# Altium schematic symbol library power.SchLib: 101 symbols
Pins are listed as number, name and electrical type; pins without a type are passive.

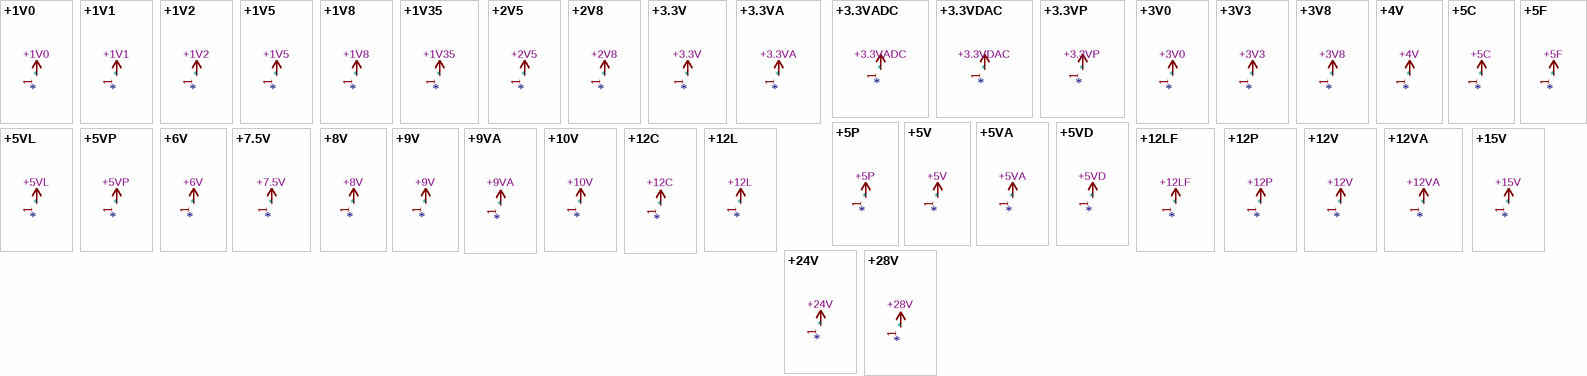
[diagram p0: symbols +1V0 to +28V]

## +1V0
designator *  value +1V0
Reference: #PWR; ki_keywords: global power; ki_description: Power symbol creates a global label with name "+1V0"
pins: 1 +1V0

## +1V1
designator *  value +1V1
Reference: #PWR; ki_keywords: global power; ki_description: Power symbol creates a global label with name "+1V1"
pins: 1 +1V1

## +1V2
designator *  value +1V2
Reference: #PWR; ki_keywords: global power; ki_description: Power symbol creates a global label with name "+1V2"
pins: 1 +1V2

## +1V5
designator *  value +1V5
Reference: #PWR; ki_keywords: global power; ki_description: Power symbol creates a global label with name "+1V5"
pins: 1 +1V5

## +1V8
designator *  value +1V8
Reference: #PWR; ki_keywords: global power; ki_description: Power symbol creates a global label with name "+1V8"
pins: 1 +1V8

## +1V35
designator *  value +1V35
Reference: #PWR; ki_keywords: global power; ki_description: Power symbol creates a global label with name "+1V35"
pins: 1 +1V35

## +2V5
designator *  value +2V5
Reference: #PWR; ki_keywords: global power; ki_description: Power symbol creates a global label with name "+2V5"
pins: 1 +2V5

## +2V8
designator *  value +2V8
Reference: #PWR; ki_keywords: global power; ki_description: Power symbol creates a global label with name "+2V8"
pins: 1 +2V8

## +3.3V
designator *  value +3.3V
Reference: #PWR; ki_keywords: global power; ki_description: Power symbol creates a global label with name "+3.3V"
pins: 1 +3.3V

## +3.3VA
designator *  value +3.3VA
Reference: #PWR; ki_keywords: global power; ki_description: Power symbol creates a global label with name "+3.3VA"
pins: 1 +3.3VA

## +3.3VADC
designator *  value +3.3VADC
Reference: #PWR; ki_keywords: global power; ki_description: Power symbol creates a global label with name "+3.3VADC"
pins: 1 +3.3VADC

## +3.3VDAC
designator *  value +3.3VDAC
Reference: #PWR; ki_keywords: global power; ki_description: Power symbol creates a global label with name "+3.3VDAC"
pins: 1 +3.3VDAC

## +3.3VP
designator *  value +3.3VP
Reference: #PWR; ki_keywords: global power; ki_description: Power symbol creates a global label with name "+3.3VP"
pins: 1 +3.3VP

## +3V0
designator *  value +3V0
Reference: #PWR; ki_keywords: global power; ki_description: Power symbol creates a global label with name "+3V0"
pins: 1 +3V0

## +3V3
designator *  value +3V3
Reference: #PWR; ki_keywords: global power; ki_description: Power symbol creates a global label with name "+3V3"
pins: 1 +3V3

## +3V8
designator *  value +3V8
Reference: #PWR; ki_keywords: global power; ki_description: Power symbol creates a global label with name "+3V8"
pins: 1 +3V8

## +4V
designator *  value +4V
Reference: #PWR; ki_keywords: global power; ki_description: Power symbol creates a global label with name "+4V"
pins: 1 +4V

## +5C
designator *  value +5C
Reference: #PWR; ki_keywords: global power; ki_description: Power symbol creates a global label with name "+5C"
pins: 1 +5C

## +5F
designator *  value +5F
Reference: #PWR; ki_keywords: global power; ki_description: Power symbol creates a global label with name "+5F"
pins: 1 +5F

## +5P
designator *  value +5P
Reference: #PWR; ki_keywords: global power; ki_description: Power symbol creates a global label with name "+5P"
pins: 1 +5P

## +5V
designator *  value +5V
Reference: #PWR; ki_keywords: global power; ki_description: Power symbol creates a global label with name "+5V"
pins: 1 +5V

## +5VA
designator *  value +5VA
Reference: #PWR; ki_keywords: global power; ki_description: Power symbol creates a global label with name "+5VA"
pins: 1 +5VA

## +5VD
designator *  value +5VD
Reference: #PWR; ki_keywords: global power; ki_description: Power symbol creates a global label with name "+5VD"
pins: 1 +5VD

## +5VL
designator *  value +5VL
Reference: #PWR; ki_keywords: global power; ki_description: Power symbol creates a global label with name "+5VL"
pins: 1 +5VL

## +5VP
designator *  value +5VP
Reference: #PWR; ki_keywords: global power; ki_description: Power symbol creates a global label with name "+5VP"
pins: 1 +5VP

## +6V
designator *  value +6V
Reference: #PWR; ki_keywords: global power; ki_description: Power symbol creates a global label with name "+6V"
pins: 1 +6V

## +7.5V
designator *  value +7.5V
Reference: #PWR; ki_keywords: global power; ki_description: Power symbol creates a global label with name "+7.5V"
pins: 1 +7.5V

## +8V
designator *  value +8V
Reference: #PWR; ki_keywords: global power; ki_description: Power symbol creates a global label with name "+8V"
pins: 1 +8V

## +9V
designator *  value +9V
Reference: #PWR; ki_keywords: global power; ki_description: Power symbol creates a global label with name "+9V"
pins: 1 +9V

## +9VA
designator *  value +9VA
Reference: #PWR; ki_keywords: global power; ki_description: Power symbol creates a global label with name "+9VA"
pins: 1 +9VA

## +10V
designator *  value +10V
Reference: #PWR; ki_keywords: global power; ki_description: Power symbol creates a global label with name "+10V"
pins: 1 +10V

## +12C
designator *  value +12C
Reference: #PWR; ki_keywords: global power; ki_description: Power symbol creates a global label with name "+12C"
pins: 1 +12C

## +12L
designator *  value +12L
Reference: #PWR; ki_keywords: global power; ki_description: Power symbol creates a global label with name "+12L"
pins: 1 +12L

## +12LF
designator *  value +12LF
Reference: #PWR; ki_keywords: global power; ki_description: Power symbol creates a global label with name "+12LF"
pins: 1 +12LF

## +12P
designator *  value +12P
Reference: #PWR; ki_keywords: global power; ki_description: Power symbol creates a global label with name "+12P"
pins: 1 +12P

## +12V
designator *  value +12V
Reference: #PWR; ki_keywords: global power; ki_description: Power symbol creates a global label with name "+12V"
pins: 1 +12V

## +12VA
designator *  value +12VA
Reference: #PWR; ki_keywords: global power; ki_description: Power symbol creates a global label with name "+12VA"
pins: 1 +12VA

## +15V
designator *  value +15V
Reference: #PWR; ki_keywords: global power; ki_description: Power symbol creates a global label with name "+15V"
pins: 1 +15V

## +24V
designator *  value +24V
Reference: #PWR; ki_keywords: global power; ki_description: Power symbol creates a global label with name "+24V"
pins: 1 +24V

## +28V
designator *  value +28V
Reference: #PWR; ki_keywords: global power; ki_description: Power symbol creates a global label with name "+28V"
pins: 1 +28V

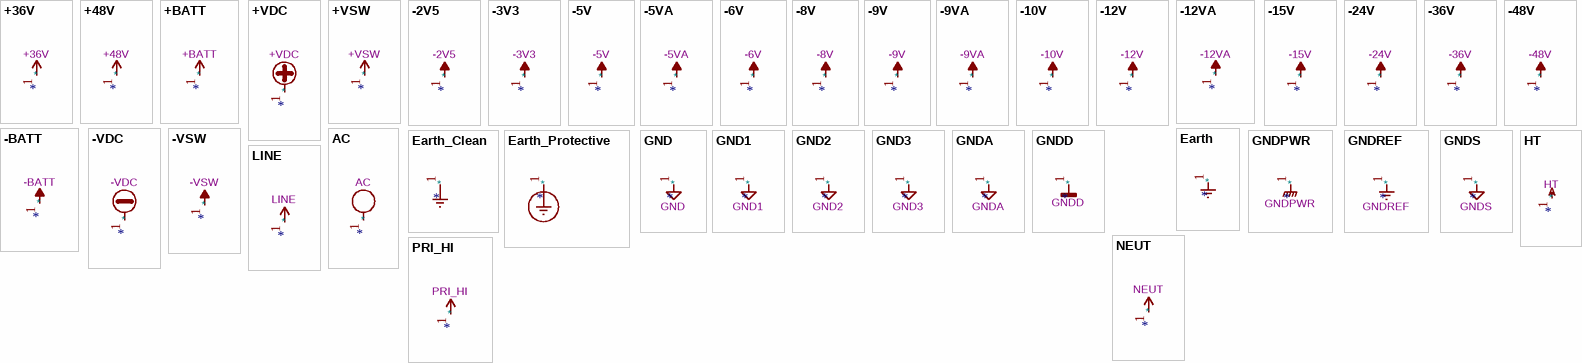
[diagram p1: symbols +36V to PRI_HI]

## +36V
designator *  value +36V
Reference: #PWR; ki_keywords: global power; ki_description: Power symbol creates a global label with name "+36V"
pins: 1 +36V

## +48V
designator *  value +48V
Reference: #PWR; ki_keywords: global power; ki_description: Power symbol creates a global label with name "+48V"
pins: 1 +48V

## +BATT
designator *  value +BATT
Reference: #PWR; ki_keywords: global power battery; ki_description: Power symbol creates a global label with name "+BATT"
pins: 1 +BATT

## +VDC
designator *  value +VDC
Reference: #PWR; ki_keywords: global power; ki_description: Power symbol creates a global label with name "+VDC"
pins: 1 +VDC

## +VSW
designator *  value +VSW
Reference: #PWR; ki_keywords: global power; ki_description: Power symbol creates a global label with name "+VSW"
pins: 1 +VSW

## -2V5
designator *  value -2V5
Reference: #PWR; ki_keywords: global power; ki_description: Power symbol creates a global label with name "-2V5"
pins: 1 -2V5

## -3V3
designator *  value -3V3
Reference: #PWR; ki_keywords: global power; ki_description: Power symbol creates a global label with name "-3V3"
pins: 1 -3V3

## -5V
designator *  value -5V
Reference: #PWR; ki_keywords: global power; ki_description: Power symbol creates a global label with name "-5V"
pins: 1 -5V

## -5VA
designator *  value -5VA
Reference: #PWR; ki_keywords: global power; ki_description: Power symbol creates a global label with name "-5VA"
pins: 1 -5VA

## -6V
designator *  value -6V
Reference: #PWR; ki_keywords: global power; ki_description: Power symbol creates a global label with name "-6V"
pins: 1 -6V

## -8V
designator *  value -8V
Reference: #PWR; ki_keywords: global power; ki_description: Power symbol creates a global label with name "-8V"
pins: 1 -8V

## -9V
designator *  value -9V
Reference: #PWR; ki_keywords: global power; ki_description: Power symbol creates a global label with name "-9V"
pins: 1 -9V

## -9VA
designator *  value -9VA
Reference: #PWR; ki_keywords: global power; ki_description: Power symbol creates a global label with name "-9VA"
pins: 1 -9VA

## -10V
designator *  value -10V
Reference: #PWR; ki_keywords: global power; ki_description: Power symbol creates a global label with name "-10V"
pins: 1 -10V

## -12V
designator *  value -12V
Reference: #PWR; ki_keywords: global power; ki_description: Power symbol creates a global label with name "-12V"
pins: 1 -12V

## -12VA
designator *  value -12VA
Reference: #PWR; ki_keywords: global power; ki_description: Power symbol creates a global label with name "-12VA"
pins: 1 -12VA

## -15V
designator *  value -15V
Reference: #PWR; ki_keywords: global power; ki_description: Power symbol creates a global label with name "-15V"
pins: 1 -15V

## -24V
designator *  value -24V
Reference: #PWR; ki_keywords: global power; ki_description: Power symbol creates a global label with name "-24V"
pins: 1 -24V

## -36V
designator *  value -36V
Reference: #PWR; ki_keywords: global power; ki_description: Power symbol creates a global label with name "-36V"
pins: 1 -36V

## -48V
designator *  value -48V
Reference: #PWR; ki_keywords: global power; ki_description: Power symbol creates a global label with name "-48V"
pins: 1 -48V

## -BATT
designator *  value -BATT
Reference: #PWR; ki_keywords: global power battery; ki_description: Power symbol creates a global label with name "-BATT"
pins: 1 -BATT

## -VDC
designator *  value -VDC
Reference: #PWR; ki_keywords: global power; ki_description: Power symbol creates a global label with name "-VDC"
pins: 1 -VDC

## -VSW
designator *  value -VSW
Reference: #PWR; ki_keywords: global power; ki_description: Power symbol creates a global label with name "-VSW"
pins: 1 -VSW

## AC
designator *  value AC
Reference: #PWR; ki_keywords: global power; ki_description: Power symbol creates a global label with name "AC"
pins: 1 AC

## Earth
designator *
Value: Earth; Reference: #PWR; ki_keywords: global ground gnd; ki_description: Power symbol creates a global label with name "Earth"; Datasheet: ~
pins: 1 Earth

## Earth_Clean
designator *
Value: Earth_Clean; Reference: #PWR; ki_keywords: global ground gnd clean signal; ki_description: Power symbol creates a global label with name "Earth_Clean"; Datasheet: ~
pins: 1 Earth_Clean

## Earth_Protective
designator *
Value: Earth_Protective; Reference: #PWR; ki_keywords: global ground gnd clean; ki_description: Power symbol creates a global label with name "Earth_Protective"; Datasheet: ~
pins: 1 Earth_Protective

## GND
designator *  value GND
Reference: #PWR; ki_keywords: global power; ki_description: Power symbol creates a global label with name "GND" , ground
pins: 1 GND

## GND1
designator *  value GND1
Reference: #PWR; ki_keywords: global power; ki_description: Power symbol creates a global label with name "GND1" , ground
pins: 1 GND1

## GND2
designator *  value GND2
Reference: #PWR; ki_keywords: global power; ki_description: Power symbol creates a global label with name "GND2" , ground
pins: 1 GND2

## GND3
designator *  value GND3
Reference: #PWR; ki_keywords: global power; ki_description: Power symbol creates a global label with name "GND3" , ground
pins: 1 GND3

## GNDA
designator *  value GNDA
Reference: #PWR; ki_keywords: global power; ki_description: Power symbol creates a global label with name "GNDA" , analog ground
pins: 1 GNDA

## GNDD
designator *  value GNDD
Reference: #PWR; ki_keywords: global power; ki_description: Power symbol creates a global label with name "GNDD" , digital ground
pins: 1 GNDD

## GNDPWR
designator *  value GNDPWR
Reference: #PWR; ki_keywords: global ground; ki_description: Power symbol creates a global label with name "GNDPWR" , global ground
pins: 1 GNDPWR

## GNDREF
designator *  value GNDREF
Reference: #PWR; ki_keywords: global power; ki_description: Power symbol creates a global label with name "GNDREF" , reference supply ground
pins: 1 GNDREF

## GNDS
designator *  value GNDS
Reference: #PWR; ki_keywords: global power; ki_description: Power symbol creates a global label with name "GNDS" , signal ground
pins: 1 GNDS

## HT
designator *  value HT
Reference: #PWR; ki_keywords: global power; ki_description: Power symbol creates a global label with name "HT"
pins: 1 HT

## LINE
designator *  value LINE
Reference: #PWR; ki_keywords: global power; ki_description: Power symbol creates a global label with name "LINE"
pins: 1 LINE

## NEUT
designator *  value NEUT
Reference: #PWR; ki_keywords: global power; ki_description: Power symbol creates a global label with name "NEUT"
pins: 1 NEUT

## PRI_HI
designator *  value PRI_HI
Reference: #PWR; ki_keywords: global power; ki_description: Power symbol creates a global label with name "PRI_HI"
pins: 1 PRI_HI

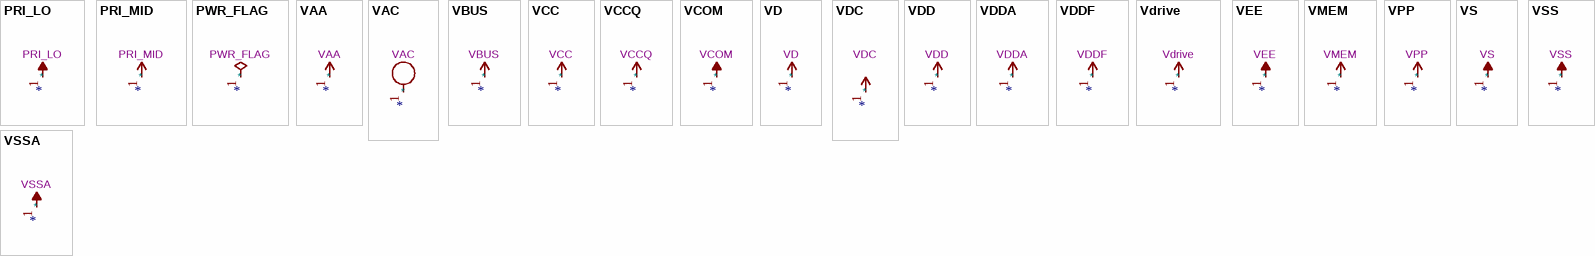
[diagram p2: symbols PRI_LO to VSSA]

## PRI_LO
designator *  value PRI_LO
Reference: #PWR; ki_keywords: global power; ki_description: Power symbol creates a global label with name "PRI_LO"
pins: 1 PRI_LO

## PRI_MID
designator *  value PRI_MID
Reference: #PWR; ki_keywords: global power; ki_description: Power symbol creates a global label with name "PRI_MID"
pins: 1 PRI_MID

## PWR_FLAG
designator *  value PWR_FLAG
Reference: #FLG; ki_keywords: flag power; ki_description: Special symbol for telling ERC where power comes from; Datasheet: ~
pins: 1 pwr

## VAA
designator *  value VAA
Reference: #PWR; ki_keywords: global power; ki_description: Power symbol creates a global label with name "VAA"
pins: 1 VAA

## VAC
designator *  value VAC
Reference: #PWR; ki_keywords: global power; ki_description: Power symbol creates a global label with name "VAC"
pins: 1 VAC

## VBUS
designator *  value VBUS
Reference: #PWR; ki_keywords: global power; ki_description: Power symbol creates a global label with name "VBUS"
pins: 1 VBUS

## VCC
designator *  value VCC
Reference: #PWR; ki_keywords: global power; ki_description: Power symbol creates a global label with name "VCC"
pins: 1 VCC

## VCCQ
designator *  value VCCQ
Reference: #PWR; ki_keywords: global power; ki_description: Power symbol creates a global label with name "VCCQ"
pins: 1 VCCQ

## VCOM
designator *  value VCOM
Reference: #PWR; ki_keywords: global power; ki_description: Power symbol creates a global label with name "VCOM"
pins: 1 VCOM

## VD
designator *  value VD
Reference: #PWR; ki_keywords: global power; ki_description: Power symbol creates a global label with name "VD"
pins: 1 VD

## VDC
designator *  value VDC
Reference: #PWR; ki_keywords: global power; ki_description: Power symbol creates a global label with name "VDC"
pins: 1 VDC

## VDD
designator *  value VDD
Reference: #PWR; ki_keywords: global power; ki_description: Power symbol creates a global label with name "VDD"
pins: 1 VDD

## VDDA
designator *  value VDDA
Reference: #PWR; ki_keywords: global power; ki_description: Power symbol creates a global label with name "VDDA"
pins: 1 VDDA

## VDDF
designator *  value VDDF
Reference: #PWR; ki_keywords: global power; ki_description: Power symbol creates a global label with name "VDDF"
pins: 1 VDDF

## Vdrive
designator *  value Vdrive
Reference: #PWR; ki_keywords: global power; ki_description: Power symbol creates a global label with name "Vdrive"
pins: 1 Vdrive

## VEE
designator *  value VEE
Reference: #PWR; ki_keywords: global power; ki_description: Power symbol creates a global label with name "VEE"
pins: 1 VEE

## VMEM
designator *  value VMEM
Reference: #PWR; ki_keywords: global power; ki_description: Power symbol creates a global label with name "VMEM"
pins: 1 VMEM

## VPP
designator *  value VPP
Reference: #PWR; ki_keywords: global power; ki_description: Power symbol creates a global label with name "VPP"
pins: 1 VPP

## VS
designator *  value VS
Reference: #PWR; ki_keywords: global power; ki_description: Power symbol creates a global label with name "VS"
pins: 1 VS

## VSS
designator *  value VSS
Reference: #PWR; ki_keywords: global power; ki_description: Power symbol creates a global label with name "VSS"
pins: 1 VSS

## VSSA
designator *  value VSSA
Reference: #PWR; ki_keywords: global power; ki_description: Power symbol creates a global label with name "VSSA"
pins: 1 VSSA